# Altium footprint library коммутационные эл-ты.PcbLib: 5 footprints
Each footprint in its own frame and in the unit in brackets; x right, y up, seen from the top. Pads: shape width x height; smd on the part's side, far side on the other; paste and mask are expansions set on the pad; w line width, h text height; cw(c..) or ccw(c..) is an arc to the next point about the centre after c.
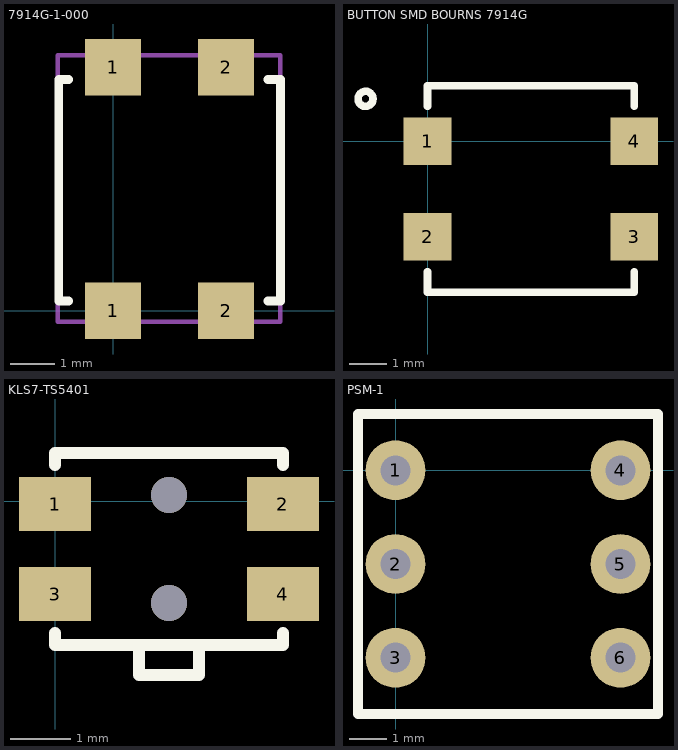
[diagram p0: the footprints below, top view; thin cyan lines are the x and y axes]

## 7914G-1-000 [mm]
pads (4):
  rect 1.27x1.27 smd: 1(0,0) 1(0,5.5) 2(2.55,0) 2(2.55,5.5)
Top Overlay:
  lines w0.2: -1,0.225 -1.225,0.225 -1.225,5.225 -1,5.225 ; 3.5,0.225 3.775,0.225 3.775,5.225 3.5,5.225
Mechanical 13:
  lines w0.1: -1.25,-0.25 3.77,-0.25 3.77,5.77 -1.25,5.77 -1.25,-0.25
  text ".Designator" at 0.5,2.125 h1.5
3D body "7914G.STEP": height 4.19, standoff 0, extent -1.25,-0.375 3.75,5.825

## BUTTON SMD BOURNS 7914G [mm]
pads (4):
  rect 1.27x1.27 smd: 1(0,0) 2(0,-2.54) 3(5.5,-2.54) 4(5.5,0)
Top Overlay:
  circle w0.2: c-1.65,1.13 r0.2
  lines w0.2: 0,-3.47 0,-4.02 5.5,-4.02 5.5,-3.47 ; 0,0.93 0,1.48 5.5,1.48 5.5,0.93

## KLS7-TS5401 [mm]
pads (4):
  rect 1.2x0.9 smd: 1(0,-0.05) 2(3.8,-0.05) 3(0,-1.55) 4(3.8,-1.55)
via 1.9,-1.7 diameter 0.6 hole 0.6
via 1.9,0.1 diameter 0.6 hole 0.6
Top Overlay:
  lines w0.2: 0,-2.2 0,-2.4 3.8,-2.4 3.8,-2.2 ; 0,0.6 0,0.8 3.8,0.8 3.8,0.6 ; 1.4,-2.4 1.4,-2.9 2.4,-2.9 2.4,-2.4

## PCBComponent_1 [mm]

## PSM-1 [mm]
pads (6):
  round 1.6 hole 0.8: 1(0,0) 2(0,-2.5) 3(0,-5) 4(6,0) 5(6,-2.5) 6(6,-5)
Top Overlay:
  lines w0.254: -1,-6.5 -1,1.5 7,1.5 7,-6.5 -1,-6.5